# EAGLE library part 693072010801 (library WR-CRD)
WR-CRD SD Card Connectors Characteristics Available in two form factors: SD and MicroSD Available in three entry types: Push-Pull, Hinge and Push-Push SD 4.0 available in SD form factor for higher transfer speed Applications Single-board computers Surveillance systems Industrial data logging Consumer Electronics Drones <https://www.we-online.com/components/media/o32845v209%20Family_ConCRD_693071010811.jpg> Details see: www.we-online.com/components/products/WR-CRD_CARD_CONNECTORS_SD2 <www.we-online.com/catalog/WR-CRD_CARD_CONNECTORS_SD2/?utm_source=eagle_model&utm_medium=description_link&utm_campaign=eisos_eagle> Updated by Ella Wu 2020-04-15 2020(C) Wurth Elektronik
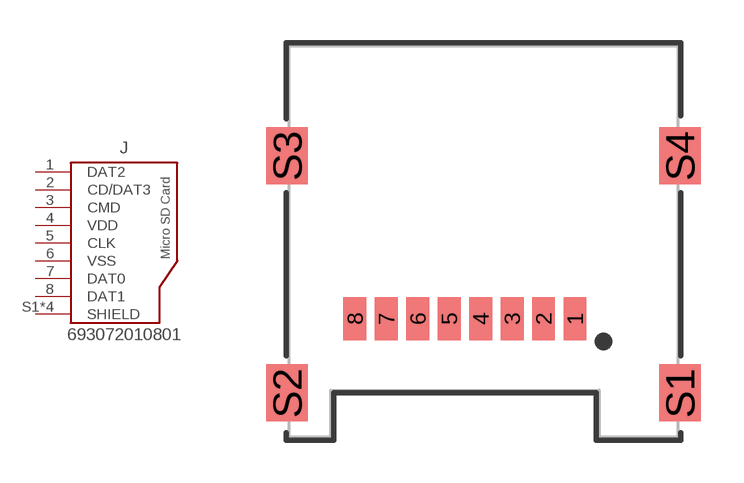
[diagram p8: symbol with the pads of 693072010801; footprint 693072010801]

Designator prefix J

## 693072010801 (DATASHEET-URL: https://www.we-online.com/redexpert/spec/693072010801?ae; DURABILITY: 10000 Mating cycles; GERDER: Socket; MOUNT: SMT; PART-NUMBER: 693072010801; PINS: 8pcs; SIZE: Micro SD; TYPE: Hinge; VALUE: 693072010801)  [693072010801]
1  DAT2  pas
2  CD/DAT3  pas
3  CMD  pas
4  VDD  pas
5  CLK  pas
6  VSS  pas
7  DAT0  pas
8  DAT1  pas
S1  SHIELD  pas
S2  SHIELD  pas
S3  SHIELD  pas
S4  SHIELD  pas

## Footprint 693072010801 (pad centres in mm)
WR-CRD Micro SD Card Connector Hinge 8 pins
smd 0.8 x 1.5: 1 3.2,-2.7; 2 2.1,-2.7; 3 1,-2.7; 4 -0.1,-2.7; 5 -1.2,-2.7; 6 -2.3,-2.7; 7 -3.4,-2.7; 8 -4.5,-2.7
smd 1.45 x 2: S1 6.875,-5.3; S2 -6.875,-5.3; S3 -6.875,3; S4 6.875,3